# EAGLE library part DPDTR10 (library dec-con)
DPDT Relay
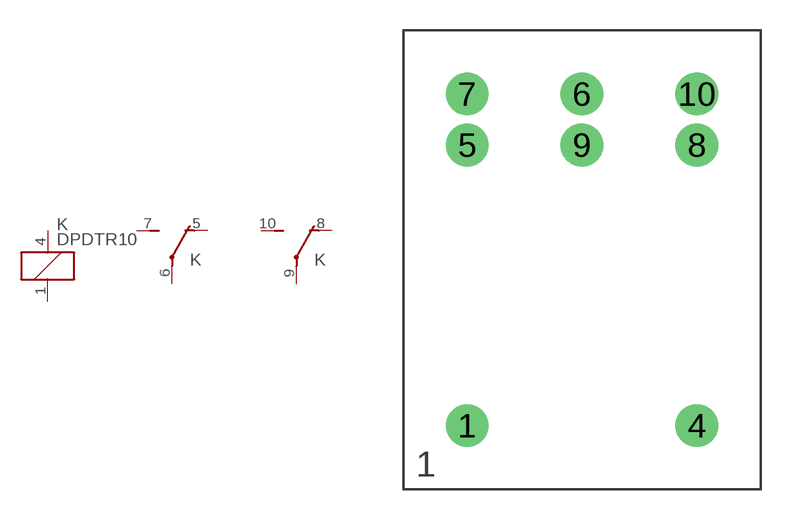
[diagram p68: symbol with the pads of R10; footprint R10]

Designator prefix K; gates K=K U1=U U2=U

## DPDTR10  [R10]
1  K:1  pas
4  K:7  pas
5  U1:O  pas
6  U1:P  pas
7  U1:S  pas
8  U2:O  pas
9  U2:P  pas
10  U2:S  pas

## Footprint R10 (pad centres in mm)
R10 DPDT Relay
drill 1.422: 1 -5.08,-6.35; 4 6.35,-6.35; 5 -5.08,7.62; 6 0.635,10.16; 7 -5.08,10.16; 8 6.35,7.62; 9 0.635,7.62; 10 6.35,10.16